# EAGLE library part TMUX1119DCKR (library Elektronik_lib)
5-V low-leakage-current, 2:1 1-channel precision multiplexer Source: Datasheet <http://www.ti.com/lit/ds/symlink/tmux1119.pdf>
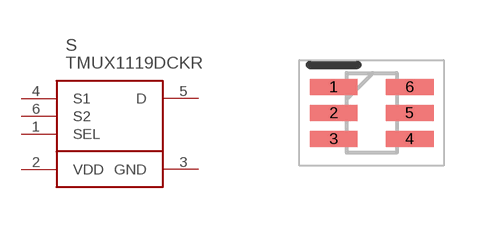
[diagram p9: symbol with the pads of SOT65P210X110-6N; footprint SOT65P210X110-6N]

Designator prefix S

## TMUX1119DCKR (ARROW_PART_NUMBER: TMUX1119DCKR; ARROW_PRICE-STOCK: https://www.arrow.com/en/products/tmux1119dckr/texas-instruments?region=nac; DESCRIPTION: 5-V low-leakage-current, 2:1 1-channel precision multiplexer; HEIGHT: 1.1mm; MANUFACTURER_NAME: Texas Instruments; MANUFACTURER_PART_NUMBER: TMUX1119DCKR; MOUSER_PART_NUMBER: 595-TMUX1119DCKR; MOUSER_PRICE-STOCK: https://www.mouser.co.uk/ProductDetail/Texas-Instruments/TMUX1119DCKR?qs=l7cgNqFNU1hspxNpR8kEdQ%3D%3D)  [SOT65P210X110-6N]
1  SEL
2  VDD  pwr
3  GND  pwr
4  S1
5  D
6  S2

## Footprint SOT65P210X110-6N (pad centres in mm)
DCK (R-PDSO-G6)
smd 1.2 x 0.4: 1 -0.95,0.65; 2 -0.95,0; 3 -0.95,-0.65; 4 0.95,-0.65; 5 0.95,0; 6 0.95,0.65